# EAGLE library part MOJO_V2_HEADER1_CHOPPED (library EmbeddedMicro-Mojo)
Only the header in mojo v2 header 1
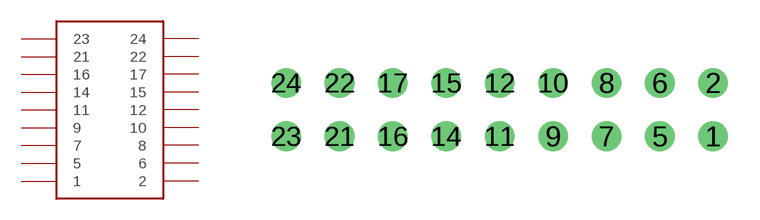
[diagram p2: symbol with the pads of MOJO_V2_HEADER1_CHOPPED; footprint MOJO_V2_HEADER1_CHOPPED]

Designator prefix -

## MOJO_V2_HEADER1_CHOPPED  [MOJO_V2_HEADER1_CHOPPED]
1  1
2  2
5  5
6  6
7  7
8  8
9  9
10  10
11  11
12  12
14  14
15  15
16  16
17  17
21  21
22  22
23  23
24  24

## Footprint MOJO_V2_HEADER1_CHOPPED (pad centres in mm)
drill 0.9: 1 10.16,-1.27; 2 10.16,1.27; 5 7.62,-1.27; 6 7.62,1.27; 7 5.08,-1.27; 8 5.08,1.27; 9 2.54,-1.27; 10 2.54,1.27; 11 0,-1.27; 12 0,1.27; 14 -2.54,-1.27; 15 -2.54,1.27; 16 -5.08,-1.27; 17 -5.08,1.27; 21 -7.62,-1.27; 22 -7.62,1.27; 23 -10.16,-1.27; 24 -10.16,1.27